# Altium footprint library wulpus_pro_acq.PcbLib: 62 footprints (part 3 of 4)
Each footprint in its own frame and in the unit in brackets; x right, y up, seen from the top. Pads: shape width x height; smd on the part's side, far side on the other; paste and mask are expansions set on the pad; w line width, h text height; cw(c..) or ccw(c..) is an arc to the next point about the centre after c.
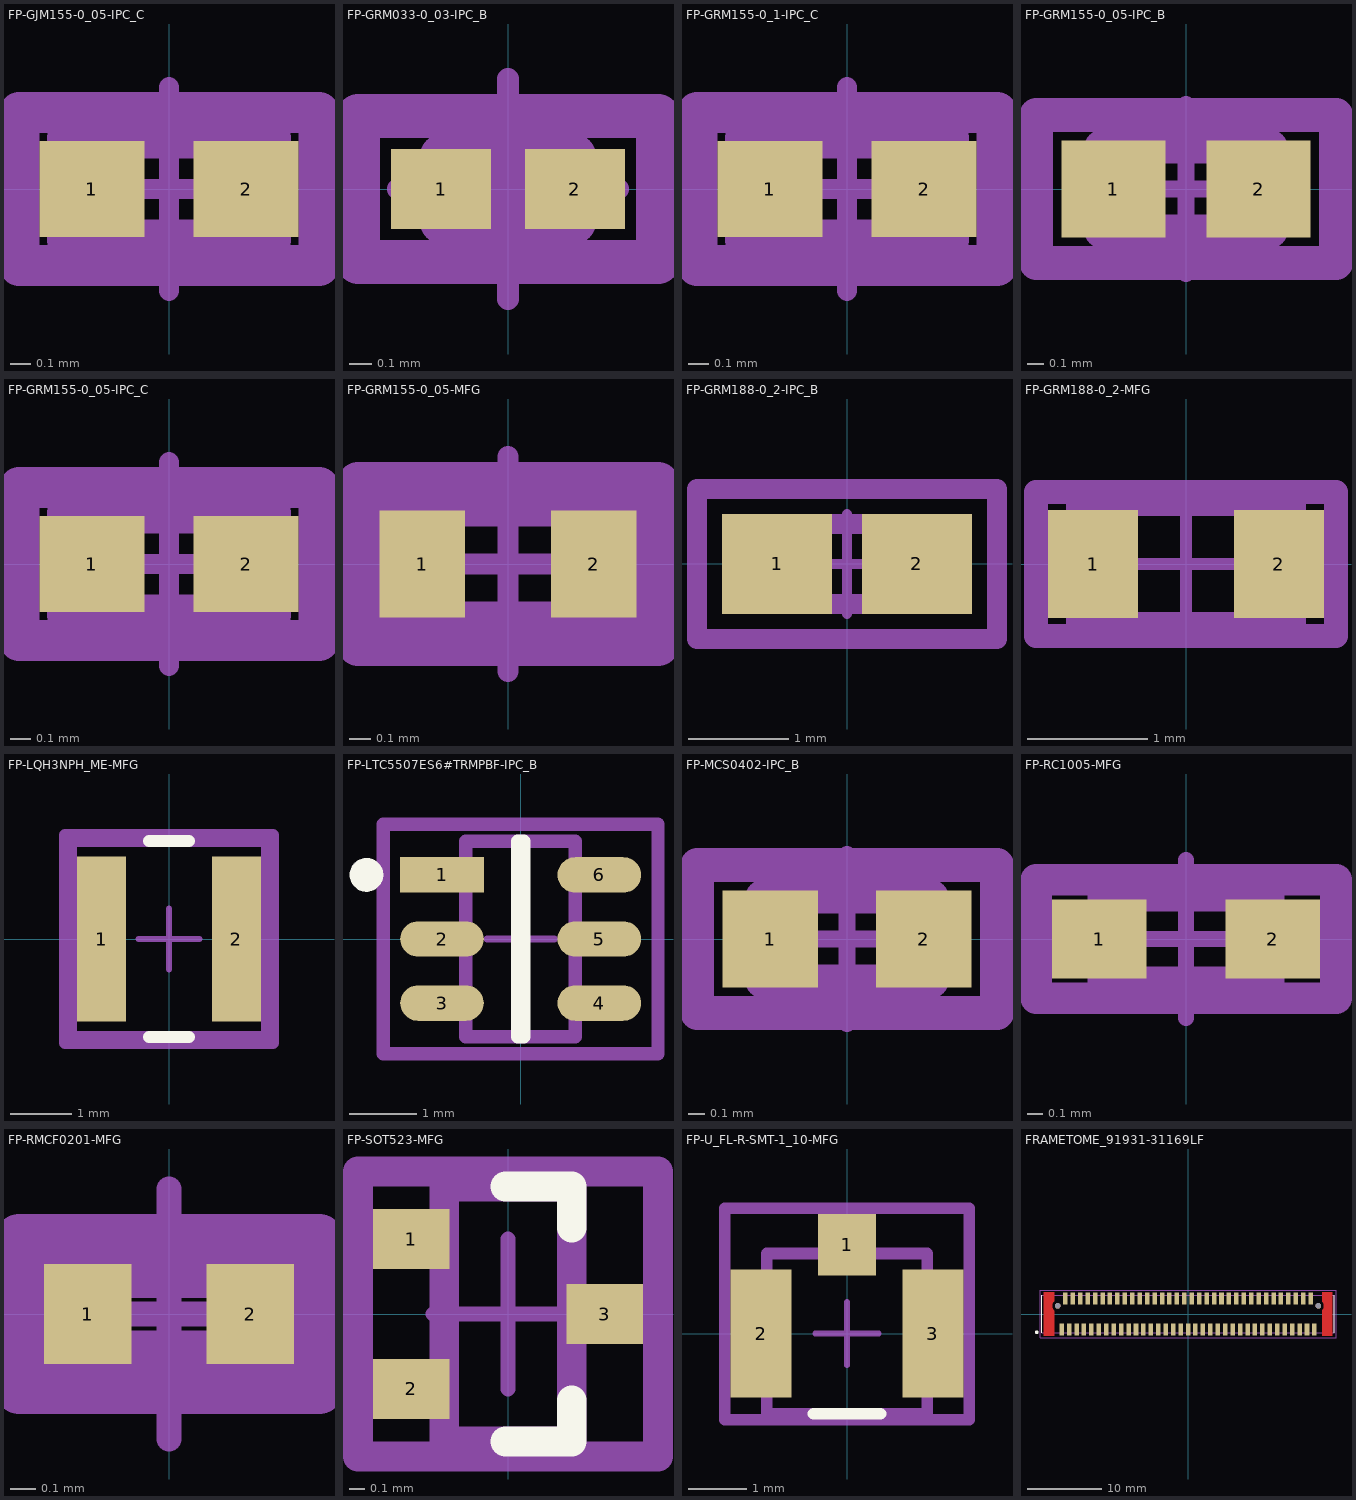
[diagram p2: the footprints below, top view; thin cyan lines are the x and y axes]

## FP-GJM155-0_05-IPC_C [mm]
pads (2):
  rect 0.515x0.472 smd paste+0 mask+0: 1(-0.379,0) 2(0.379,0)
Top Assembly:
  lines w0.2: -0.736,-0.375 0.736,-0.375 0.736,0.375 -0.736,0.375 -0.736,-0.375
  text ".Designator" at 0.15,0.417 h0.8
Top 3D Body:
  lines w0.2: -0.5,-0.25 0.5,-0.25 0.5,0.25 -0.5,0.25 -0.5,-0.25
Top Courtyard:
  lines w0.2: -0.736,-0.375 0.736,-0.375 0.736,0.375 -0.736,0.375 -0.736,-0.375
Top Component Center:
  lines w0.1: -0.5,0 0.5,0 ; 0,-0.5 0,0.5
3D body "Cap_Murata_GJM1551C1H7R0DB01D_eec.STEP": height 0.55, standoff 0, extent -0.5,-0.25 0.5,0.25

## FP-GRM033-0_03-IPC_B [mm]
pads (2):
  rect 0.454x0.363 smd paste+0 mask+0: 1(-0.304,0) 2(0.304,0)
Top Assembly:
  lines w0.2: -0.681,-0.331 0.681,-0.331 0.681,0.331 -0.681,0.331 -0.681,-0.331
  text ".Designator" at 0,0.188 h1
Top 3D Body:
  lines w0.2: -0.3,-0.15 0.3,-0.15 0.3,0.15 -0.3,0.15 -0.3,-0.15
Top Courtyard:
  lines w0.2: -0.681,-0.331 0.681,-0.331 0.681,0.331 -0.681,0.331 -0.681,-0.331
Top Component Center:
  lines w0.1: -0.5,0 0.5,0 ; 0,-0.5 0,0.5
3D body "Cap_Murata_GRM0335C1HR30BA01D_eec.STEP": height 0.33, standoff 0, extent -0.3,-0.15 0.3,0.15

## FP-GRM155-0_1-IPC_C [mm]
pads (2):
  rect 0.515x0.472 smd paste+0 mask+0: 1(-0.379,0) 2(0.379,0)
Top Assembly:
  lines w0.2: -0.736,-0.375 0.736,-0.375 0.736,0.375 -0.736,0.375 -0.736,-0.375
  text ".Designator" at 0.15,0.417 h0.8
Top 3D Body:
  lines w0.2: -0.5,-0.25 0.5,-0.25 0.5,0.25 -0.5,0.25 -0.5,-0.25
Top Courtyard:
  lines w0.2: -0.736,-0.375 0.736,-0.375 0.736,0.375 -0.736,0.375 -0.736,-0.375
Top Component Center:
  lines w0.1: -0.5,0 0.5,0 ; 0,-0.5 0,0.5
3D body "Cap_Murata_GRM155C81E105KE11D_eec.STEP": height 0.6, standoff 0, extent -0.5,-0.25 0.5,0.25

## FP-GRM155-0_05-IPC_B [mm]
pads (2):
  rect 0.615x0.572 smd paste+0 mask+0: 1(-0.429,0) 2(0.429,0)
Top Assembly:
  lines w0.2: -0.886,-0.436 0.886,-0.436 0.886,0.436 -0.886,0.436 -0.886,-0.436
  text ".Designator" at 0.15,0.417 h0.8
Top 3D Body:
  lines w0.2: -0.5,-0.25 0.5,-0.25 0.5,0.25 -0.5,0.25 -0.5,-0.25
Top Courtyard:
  lines w0.2: -0.886,-0.436 0.886,-0.436 0.886,0.436 -0.886,0.436 -0.886,-0.436
Top Component Center:
  lines w0.1: -0.5,0 0.5,0 ; 0,-0.5 0,0.5
3D body "Cap_Murata_GRM1552C1H271GA01J_eec.STEP": height 0.25, standoff 0, extent -0.886,-0.436 0.886,0.436

## FP-GRM155-0_05-IPC_C [mm]
pads (2):
  rect 0.515x0.472 smd paste+0 mask+0: 1(-0.379,0) 2(0.379,0)
Top Assembly:
  lines w0.2: -0.736,-0.375 -0.736,0.375 0.736,0.375 0.736,-0.375 -0.736,-0.375
  text ".Designator" at 0.15,0.417 h0.8
Top 3D Body:
  lines w0.2: -0.5,-0.25 0.5,-0.25 0.5,0.25 -0.5,0.25 -0.5,-0.25
Top Courtyard:
  lines w0.2: -0.736,-0.375 -0.736,0.375 0.736,0.375 0.736,-0.375 -0.736,-0.375
Top Component Center:
  lines w0.1: -0.5,0 0.5,0 ; 0,-0.5 0,0.5
3D body "Cap_Murata_GRM1552C1H271GA01J_eec.STEP": height 0.55, standoff 0, extent -0.5,-0.25 0.5,0.25

## FP-GRM155-0_05-MFG [mm]
pads (2):
  rect 0.4x0.5 smd paste+0 mask+0: 1(-0.4,0) 2(0.4,0)
Top Assembly:
  lines w0.2: -0.7,-0.375 -0.7,0.375 0.7,0.375 0.7,-0.375 -0.7,-0.375
  text ".Designator" at 0.15,0.417 h0.8
Top 3D Body:
  lines w0.2: -0.525,-0.275 -0.525,0.275 0.525,0.275 0.525,-0.275 -0.525,-0.275
Top Courtyard:
  lines w0.2: -0.7,-0.375 -0.7,0.375 0.7,0.375 0.7,-0.375 -0.7,-0.375
Top Component Center:
  lines w0.1: -0.5,0 0.5,0 ; 0,-0.5 0,0.5
3D body "Cap_Murata_GRM1552C1H271GA01J_eec.STEP": height 0.55, standoff 0, extent -0.5,-0.25 0.5,0.25

## FP-GRM188-0_2-IPC_B [mm]
pads (2):
  rect 1.105x1.006 smd paste+0 mask+0: 1(-0.701,0) 2(0.701,0)
Top Assembly:
  lines w0.2: -1.503,-0.753 1.503,-0.753 1.503,0.753 -1.503,0.753 -1.503,-0.753
  text ".Designator" at 0,0.188 h1
Top 3D Body:
  lines w0.2: -0.8,-0.4 0.8,-0.4 0.8,0.4 -0.8,0.4 -0.8,-0.4
Top Courtyard:
  lines w0.2: -1.503,-0.753 1.503,-0.753 1.503,0.753 -1.503,0.753 -1.503,-0.753
Top Component Center:
  lines w0.1: -0.5,0 0.5,0 ; 0,-0.5 0,0.5
3D body "Cap_Murata_GRM188C71C225KE11D_eec.STEP": height 1, standoff 0, extent -0.8,-0.4 0.8,0.4

## FP-GRM188-0_2-MFG [mm]
pads (2):
  rect 0.75x0.9 smd paste+0 mask+0: 1(-0.775,0) 2(0.775,0)
Top Assembly:
  lines w0.2: -1.25,-0.6 -1.25,0.6 1.25,0.6 1.25,-0.6 -1.25,-0.6
  text ".Designator" at 0,0.188 h1
Top 3D Body:
  lines w0.2: -0.9,-0.5 -0.9,0.5 0.9,0.5 0.9,-0.5 -0.9,-0.5
Top Courtyard:
  lines w0.2: -1.25,-0.6 -1.25,0.6 1.25,0.6 1.25,-0.6 -1.25,-0.6
Top Component Center:
  lines w0.1: -0.5,0 0.5,0 ; 0,-0.5 0,0.5
3D body "Cap_Murata_GRM188R60J476ME01D_eec.STEP": height 1, standoff 0, extent -0.8,-0.4 0.8,0.4

## FP-LQH3NPH_ME-MFG [mm]
pads (2):
  rect 0.8x2.7 smd paste+0 mask+0: 1(-1.1,0) 2(1.1,0)
Top Overlay:
  lines w0.2: -0.325,-1.6 0.325,-1.6 ; -0.325,1.6 0.325,1.6
Top Assembly:
  lines w0.2: -1.7,-1.7 1.7,-1.7 1.7,1.7 -1.7,1.7 -1.7,-1.7
  text ".Designator" at 0,0.188 h1
Top 3D Body:
  lines w0.2: -1.6,-1.6 1.6,-1.6 1.6,1.6 -1.6,1.6 -1.6,-1.6
Top Courtyard:
  lines w0.2: -1.7,-1.7 1.7,-1.7 1.7,1.7 -1.7,1.7 -1.7,-1.7
Top Component Center:
  lines w0.1: -0.5,0 0.5,0 ; 0,-0.5 0,0.5
3D body "Ind_Murata_LQH3NPH100MMEL_eec.STEP": height 1.5, standoff 0, extent -1.5,-1.5 1.5,1.5

## FP-LTC5507ES6#TRMPBF-IPC_B [mm]
pads (6):
  rect 1.24x0.526 smd paste+0 mask+0: 1(-1.165,0.95)
  rrect100% 1.24x0.526 smd paste+0 mask+0: 2(-1.165,0) 3(-1.165,-0.95) 4(1.166,-0.95) 5(1.166,0) 6(1.166,0.95)
Top Overlay:
  circle w0.25: c-2.285,0.95 r0.125
  lines w0.2: -0.046,-1.45 0.046,-1.45 0.046,1.45 -0.046,1.45 -0.046,-1.45
Top Assembly:
  lines w0.2: -2.035,-1.7 -2.035,1.7 2.035,1.7 2.035,-1.7 -2.035,-1.7
  text ".Designator" at 0.15,0.417 h0.8
Top 3D Body:
  lines w0.2: -0.813,-1.45 -0.813,1.45 0.813,1.45 0.813,-1.45 -0.813,-1.45
Top Courtyard:
  lines w0.2: -2.035,-1.7 -2.035,1.7 2.035,1.7 2.035,-1.7 -2.035,-1.7
Top Component Center:
  lines w0.1: -0.5,0 0.5,0 ; 0,-0.5 0,0.5
3D body "IC_Analog_Devices_LTC5507ES6#TRMPBF_eec.STEP": height 1, standoff 0, extent -1.41,-1.45 1.41,1.45

## FP-MCS0402-IPC_B [mm]
pads (2):
  rect 0.565x0.572 smd paste+0 mask+0: 1(-0.454,0) 2(0.454,0)
Top Assembly:
  lines w0.2: -0.886,-0.436 -0.886,0.436 0.886,0.436 0.886,-0.436 -0.886,-0.436
  text ".Designator" at 0.15,0.417 h0.8
Top 3D Body:
  lines w0.2: -0.5,-0.25 -0.5,0.25 0.5,0.25 0.5,-0.25 -0.5,-0.25
Top Courtyard:
  lines w0.2: -0.886,-0.436 -0.886,0.436 0.886,0.436 0.886,-0.436 -0.886,-0.436
Top Component Center:
  lines w0.1: -0.5,0 0.5,0 ; 0,-0.5 0,0.5
3D body "Res_Vishay_MCS04020D2213BE100_eec.STEP": height 0.37, standoff 0, extent -0.5,-0.25 0.5,0.25

## FP-RC1005-MFG [mm]
pads (2):
  rect 0.6x0.5 smd paste+0 mask+0: 1(-0.55,0) 2(0.55,0)
Top Assembly:
  lines w0.2: -0.95,-0.375 0.95,-0.375 0.95,0.375 -0.95,0.375 -0.95,-0.375
  text ".Designator" at 0.15,0.417 h0.8
Top 3D Body:
  lines w0.2: -0.525,-0.275 0.525,-0.275 0.525,0.275 -0.525,0.275 -0.525,-0.275
Top Courtyard:
  lines w0.2: -0.95,-0.375 0.95,-0.375 0.95,0.375 -0.95,0.375 -0.95,-0.375
Top Component Center:
  lines w0.1: -0.5,0 0.5,0 ; 0,-0.5 0,0.5
3D body "Res_Samsung_RC1005F2944CS_eec.STEP": height 0.4, standoff 0, extent -0.5,-0.25 0.5,0.25

## FP-RMCF0201-MFG [mm]
pads (2):
  rect 0.35x0.4 smd paste+0 mask+0: 1(-0.325,0) 2(0.325,0)
Top Assembly:
  lines w0.2: -0.6,-0.3 -0.6,0.3 0.6,0.3 0.6,-0.3 -0.6,-0.3
  text ".Designator" at 0.15,0.417 h0.8
Top 3D Body:
  lines w0.2: -0.315,-0.165 0.315,-0.165 0.315,0.165 -0.315,0.165 -0.315,-0.165
Top Courtyard:
  lines w0.2: -0.6,-0.3 -0.6,0.3 0.6,0.3 0.6,-0.3 -0.6,-0.3
Top Component Center:
  lines w0.1: -0.5,0 0.5,0 ; 0,-0.5 0,0.5
3D body "Res_Stackpole_Electronics_RMCF0201JT1K00_eec.STEP": height 0.26, standoff 0, extent -0.3,-0.15 0.3,0.15

## FP-SOT523-MFG [mm]
pads (3):
  rect 0.51x0.4 smd paste+0 mask+0: 1(-0.645,0.5) 2(-0.645,-0.5) 3(0.645,0)
Top Overlay:
  lines w0.2: -0.015,-0.85 0.425,-0.85 0.425,-0.575 ; -0.015,0.85 0.425,0.85 0.425,0.575
Top Assembly:
  lines w0.2: -1,-0.95 -1,0.95 1,0.95 1,-0.95 -1,-0.95
  text ".Designator" at 0.15,0.228 h0.8
Top 3D Body:
  lines w0.2: -0.425,-0.85 0.425,-0.85 0.425,0.85 -0.425,0.85 -0.425,-0.85
Top Courtyard:
  lines w0.2: -1,-0.95 -1,0.95 1,0.95 1,-0.95 -1,-0.95
Top Component Center:
  lines w0.1: -0.5,0 0.5,0 ; 0,-0.5 0,0.5
3D body "Diode_Diodes_Inc_BAT54ST-7-F_eec.STEP": height 0.9, standoff 0, extent -0.808,-0.8 0.808,0.8

## FP-U_FL-R-SMT-1_10-MFG [mm]
pads (3):
  rect 1x1.05 smd paste-1000 mask+0: 1(0,1.525)
  rect 1.05x2.2 smd paste-1000 mask+0: 2(-1.475,0) 3(1.475,0)
Top Overlay:
  lines w0.2: -0.575,-1.375 0.575,-1.375
Top Paste:
  rectangle: -1.95,-1 -1.05,1
  rectangle: 1.05,-1 1.95,1
  rectangle: -0.4,1.1 0.4,1.95
Top Assembly:
  lines w0.2: -2.1,-1.475 2.1,-1.475 2.1,2.15 -2.1,2.15 -2.1,-1.475
  text ".Designator" at 0.15,0.754 h0.8
Top 3D Body:
  lines w0.2: -1.375,-1.375 1.375,-1.375 1.375,1.375 -1.375,1.375 -1.375,-1.375
Top Courtyard:
  lines w0.2: -2.1,-1.475 2.1,-1.475 2.1,2.15 -2.1,2.15 -2.1,-1.475
Top Component Center:
  lines w0.1: -0.544,0 0.544,0 ; 0,-0.544 0,0.544
3D body "Conn_HIROSE_U_FL-R-SMT-1_10_eec.STEP": height 1.45, standoff 0, extent -1.5,-1.55 1.5,1.55

## FRAMETOME_91931-31169LF [mm]
pads (73):
  rect 0.61x1.63 smd paste-2: 1(-17,-2.11) 2(-16,-2.11) 3(-15,-2.11) 4(-14,-2.11) 5(-13,-2.11) 6(-12,-2.11) 7(-11,-2.11) 8(-10,-2.11) 9(-9,-2.11) 10(-8,-2.11) 11(-7,-2.11) 12(-6,-2.11) 13(-5,-2.11) 14(-4,-2.11) 15(-3,-2.11) 16(-2,-2.11) 17(-1,-2.11) 18(0,-2.11) 19(1,-2.11) 20(2,-2.11) 21(3,-2.11) 22(4,-2.11) 23(5,-2.11) 24(6,-2.11) 25(7,-2.11) 26(8,-2.11) 27(9,-2.11) 28(10,-2.11) 29(11,-2.11) 30(12,-2.11) 31(13,-2.11) 32(14,-2.11) 33(15,-2.11) 34(16,-2.11) 35(17,-2.11) 36(-16.5,2.11) 37(-15.5,2.11) 38(-14.5,2.11) 39(-13.5,2.11) 40(-12.5,2.11) 41(-11.5,2.11) 42(-10.5,2.11) 43(-9.5,2.11) 44(-8.5,2.11) 45(-7.5,2.11) 46(-6.5,2.11) 47(-5.5,2.11) 48(-4.5,2.11) 49(-3.5,2.11) 50(-2.5,2.11) 51(-1.5,2.11) 52(-0.5,2.11) 53(0.5,2.11) 54(1.5,2.11) 55(2.5,2.11) 56(3.5,2.11) 57(4.5,2.11) 58(5.5,2.11) 59(6.5,2.11) 60(7.5,2.11) 61(8.5,2.11) 62(9.5,2.11) 63(10.5,2.11) 64(11.5,2.11) 65(12.5,2.11) 66(13.5,2.11) 67(14.5,2.11) 68(15.5,2.11) 69(16.5,2.11)
  rect 0.1x0.1 smd paste-1 mask+0: B1(18.5,0.5) B2(-19.14,0.7)
  round 0.76 hole 0.76 unplated: ""(-17.526,1.1) ""(17.526,1.1)
Top Layer:
  region: 19.42,-2.92 18.02,-2.92 18.02,0.465 18.052,0.5 18.082,0.536 18.11,0.574 18.137,0.614 18.161,0.654 18.183,0.696 18.203,0.739 18.221,0.783 18.236,0.828 18.249,0.873 18.26,0.919 18.269,0.966 18.275,1.013 18.278,1.06 18.28,1.108 18.278,1.155 18.275,1.202 18.269,1.249 18.26,1.296 18.249,1.342 18.236,1.387 18.221,1.432 18.203,1.476 18.183,1.519 18.161,1.561 18.137,1.601 18.11,1.641 18.082,1.679 18.052,1.715 18.02,1.75 18.02,2.93 19.42,2.93
  region: -18.02,1.745 -18.052,1.71 -18.082,1.674 -18.11,1.636 -18.137,1.596 -18.161,1.556 -18.183,1.514 -18.203,1.471 -18.221,1.427 -18.236,1.382 -18.249,1.337 -18.26,1.291 -18.269,1.244 -18.275,1.197 -18.278,1.15 -18.28,1.102 -18.278,1.055 -18.275,1.008 -18.269,0.961 -18.26,0.914 -18.249,0.868 -18.236,0.823 -18.221,0.778 -18.203,0.734 -18.183,0.691 -18.161,0.649 -18.137,0.609 -18.11,0.569 -18.082,0.531 -18.052,0.495 -18.02,0.46 -18.02,-2.925 -19.42,-2.925 -19.42,2.925 -18.02,2.925
Top Overlay:
  circle w0.3: c-20.35,-2.45 r0.1
  lines w0.152: -19.65,-2.5 -19.65,2.5 ; 19.65,-2.5 19.65,2.5
Top Paste:
  drawing of 71 lines, arcs and shapes, not listed
Top Solder:
  region: 19.52,-3.026 17.929,-3.026 17.929,3.025 19.52,3.025
  region: -17.92,-3.029 -19.544,-3.029 -19.544,3.025 -17.92,3.025
Top 3D Body:
  lines w0.152: -19.65,-2.5 -19.65,2.5 19.65,2.5 19.65,-2.5 -19.65,-2.5
Top Courtyard:
  lines w0.05: -19.9,-3.175 -19.9,3.175 19.9,3.175 19.9,-3.175 -19.9,-3.175